# Altium footprint library PcbLib1.PcbLib: 6 footprints
Each footprint in its own frame and in the unit in brackets; x right, y up, seen from the top. Pads: shape width x height; smd on the part's side, far side on the other; paste and mask are expansions set on the pad; w line width, h text height; cw(c..) or ccw(c..) is an arc to the next point about the centre after c.
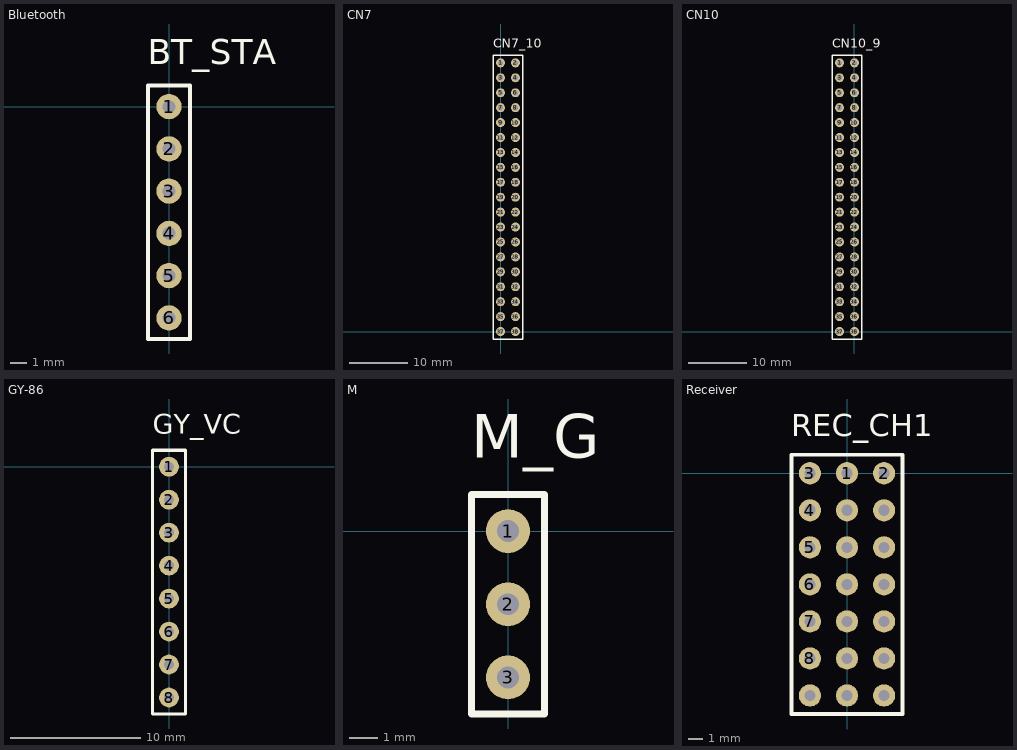
[diagram p0: the footprints below, top view; thin cyan lines are the x and y axes]

## Bluetooth [mil]
pads (6):
  round 60 hole 30: 1(0,0) 2(0,-100) 3(0,-200) 4(0,-300) 5(0,-400) 6(0,-500)
Top Overlay:
  lines w10: -50,-550 -50,50 50,50 50,-500 50,-550 -50,-550
  text "BT_STA" at -50,100 h60

## CN7 [mil]
pads (38):
  round 60 hole 35: 1(0,1800) 2(100,1800) 3(0,1700) 4(100,1700) 5(0,1600) 6(100,1600) 7(0,1500) 8(100,1500) 9(0,1400) 10(100,1400) 11(0,1300) 12(100,1300) 13(0,1200) 14(100,1200) 15(0,1100) 16(100,1100) 17(0,1000) 18(100,1000) 19(0,900) 20(100,900) 21(0,800) 22(100,800) 23(0,700) 24(100,700) 25(0,600) 26(100,600) 27(0,500) 28(100,500) 29(0,400) 30(100,400) 31(0,300) 32(100,300) 33(0,200) 34(100,200) 35(0,100) 36(100,100) 37(0,0) 38(100,0)
Top Overlay:
  lines w10: -50,-50 150,-50 150,1850 -50,1850 -50,-50
  text "CN7_10" at -50,1900 h60

## CN10 [mil]
pads (38):
  round 60 hole 35: 1(-100,1800) 2(0,1800) 3(-100,1700) 4(0,1700) 5(-100,1600) 6(0,1600) 7(-100,1500) 8(0,1500) 9(-100,1400) 10(0,1400) 11(-100,1300) 12(0,1300) 13(-100,1200) 14(0,1200) 15(-100,1100) 16(0,1100) 17(-100,1000) 18(0,1000) 19(-100,900) 20(0,900) 21(-100,800) 22(0,800) 23(-100,700) 24(0,700) 25(-100,600) 26(0,600) 27(-100,500) 28(0,500) 29(-100,400) 30(0,400) 31(-100,300) 32(0,300) 33(-100,200) 34(0,200) 35(-100,100) 36(0,100) 37(-100,0) 38(0,0)
Top Overlay:
  lines w10: -150,-50 -150,1850 50,1850 50,-50 -150,-50
  text "CN10_9" at -150,1900 h60

## GY-86 [mil]
pads (8):
  round 60 hole 30: 1(0,0) 2(0,-100) 3(0,-200) 4(0,-300) 5(0,-400) 6(0,-500) 7(0,-600) 8(0,-700)
Top Overlay:
  lines w10: -50,-750 -50,50 50,50 50,-750 -50,-750
  text "GY_VC" at -50,100 h60

## M [mil]
pads (3):
  round 60 hole 30: 1(0,0) 2(0,-100) 3(0,-200)
Top Overlay:
  lines w10: -50,-250 -50,50 50,50 50,-250 -50,-250
  text "M_G" at -50,100 h60

## Receiver [mil]
pads (21):
  round 60 hole 30: 1(0,0) 2(100,0) 3(-100,0) 4(-100,-100) 5(-100,-200) 6(-100,-300) 7(-100,-400) 8(-100,-500) ""(-100,-600) ""(0,-600) ""(0,-500) ""(0,-400) ""(0,-300) ""(0,-200) ""(0,-100) ""(100,-600) ""(100,-500) ""(100,-400) ""(100,-300) ""(100,-200) ""(100,-100)
Top Overlay:
  lines w10: -150,-650 150,-650 150,50 -150,50 -150,-650
  text "REC_CH1" at -150,100 h60